# EAGLE library part LM2664 (library yapo)
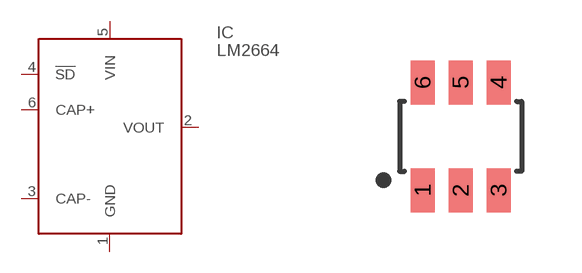
[diagram p38: symbol with the pads of SOT23-6; footprint SOT23-6]

Designator prefix IC

## LM2664  [SOT23-6]
1  GND
2  VOUT
3  CAP-
4  !SD!
5  VIN
6  CAP+

## Footprint SOT23-6 (pad centres in mm)
smd 0.6 x 1.1: 1 -0.95,-1.35; 2 0,-1.35; 3 0.95,-1.35; 4 0.95,1.35; 5 0,1.35; 6 -0.95,1.35